# Altium integrated library Xilinx Virtex-6 FPGA.IntLib: 462 symbols (part 4 of 4)
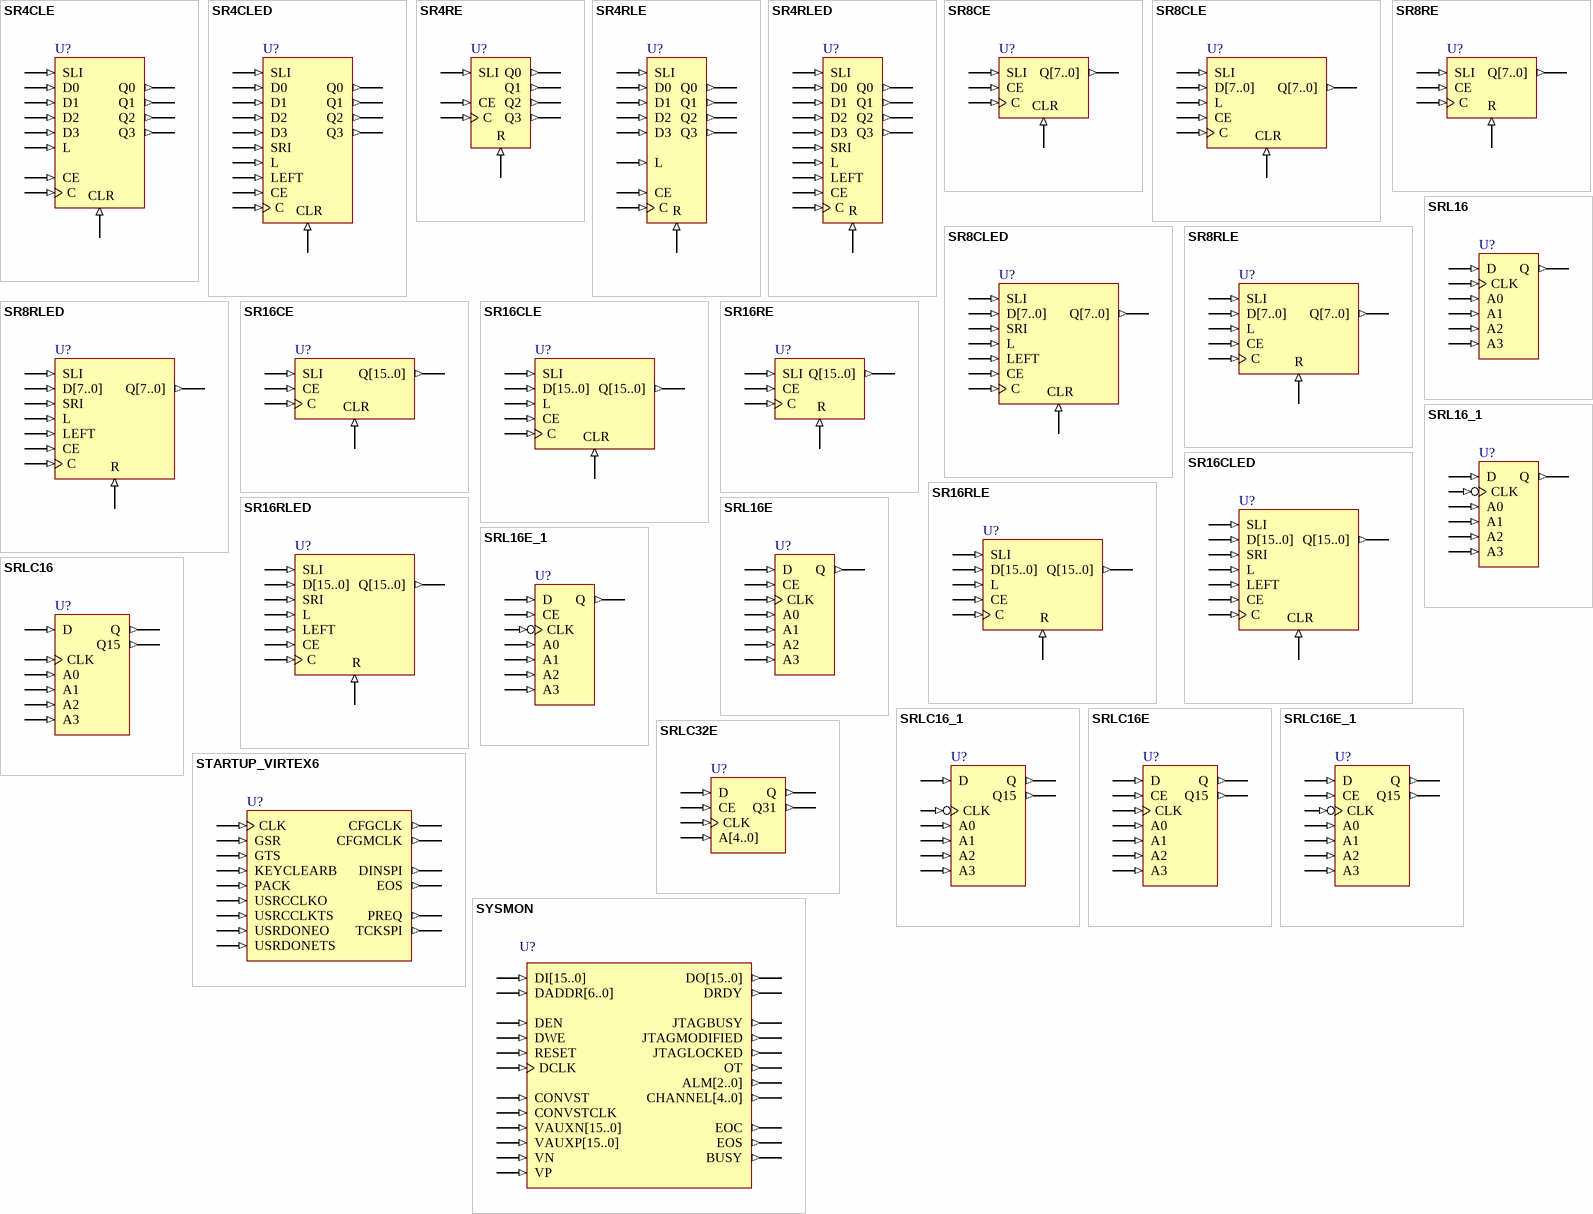
[diagram p16: symbols SR4CLE to SYSMON]

## SYSMON
designator U?
FPGAVendor: Xilinx; FirstPublished: 9-Jan-2010; Publisher: Altium Limited; HelpURL: http://www.xilinx.com/support/documentation/sw_manuals/xilinx11/virtex6_scm.pdf
pins: ALM[2..0] (out), BUSY (out), CHANNEL[4..0] (out), CONVST (in), CONVSTCLK (in), DADDR[6..0] (in), DCLK (in), DEN (in), DI[15..0] (in), DO[15..0] (out), DRDY (out), DWE (in), EOC (out), EOS (out), JTAGBUSY (out), JTAGLOCKED (out), JTAGMODIFIED (out), OT (out), RESET (in), VAUXN[15..0] (in), VAUXP[15..0] (in), VN (in), VP (in)

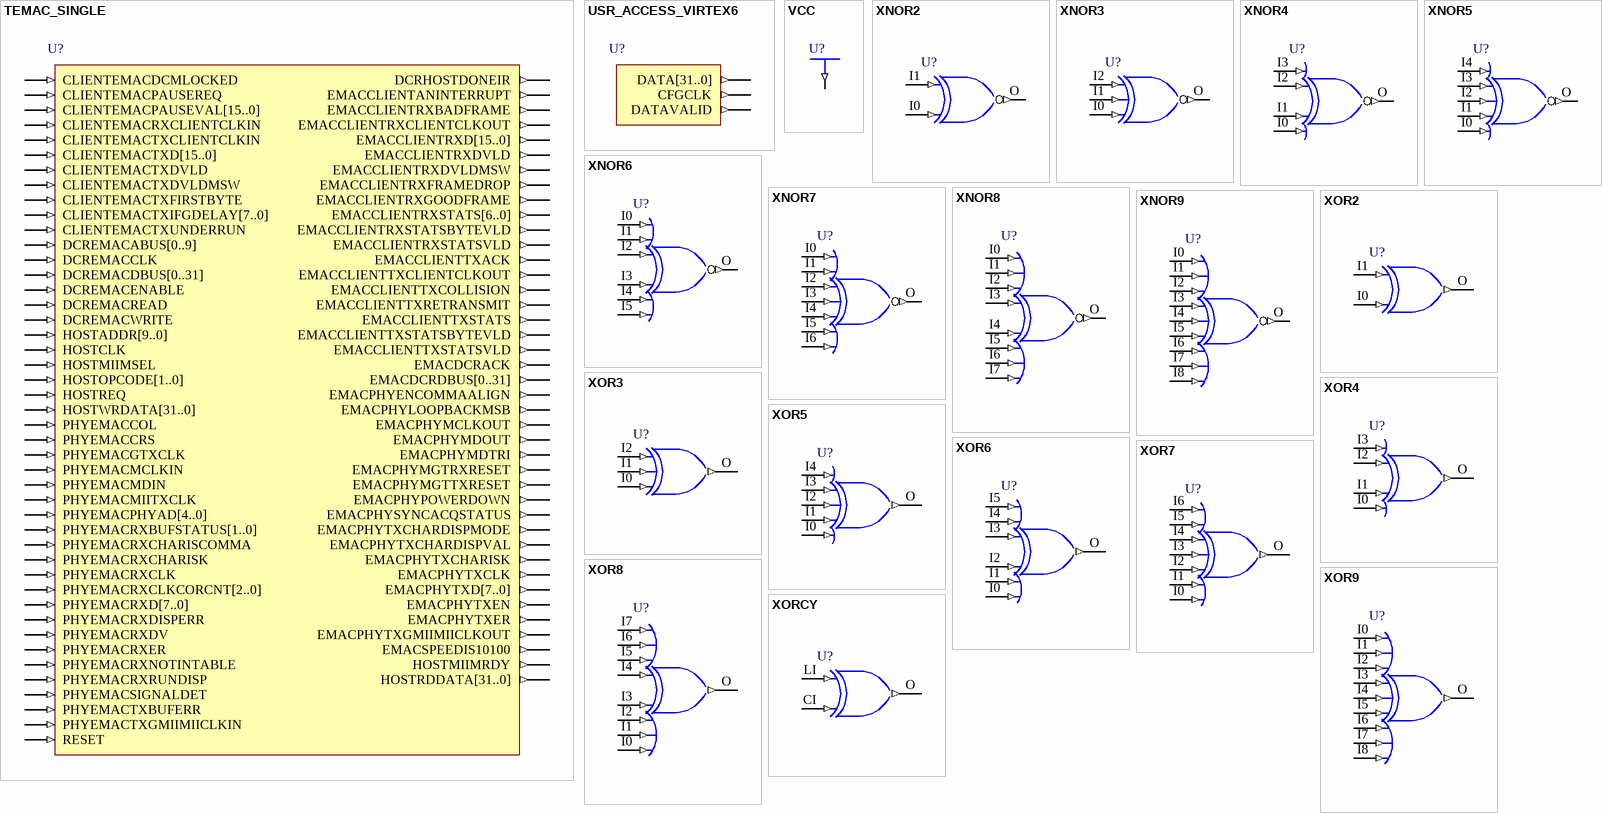
[diagram p13: symbols TEMAC_SINGLE to XORCY]

## TEMAC_SINGLE
designator U?
FPGAVendor: Xilinx; FirstPublished: 9-Jan-2010; Publisher: Altium Limited; HelpURL: http://www.xilinx.com/support/documentation/sw_manuals/xilinx11/virtex6_scm.pdf
pins: CLIENTEMACDCMLOCKED (in), CLIENTEMACPAUSEREQ (in), CLIENTEMACPAUSEVAL[15..0] (in), CLIENTEMACRXCLIENTCLKIN (in), CLIENTEMACTXCLIENTCLKIN (in), CLIENTEMACTXD[15..0] (in), CLIENTEMACTXDVLD (in), CLIENTEMACTXDVLDMSW (in), CLIENTEMACTXFIRSTBYTE (in), CLIENTEMACTXIFGDELAY[7..0] (in), CLIENTEMACTXUNDERRUN (in), DCREMACABUS[0..9] (in), DCREMACCLK (in), DCREMACDBUS[0..31] (in), DCREMACENABLE (in), DCREMACREAD (in), DCREMACWRITE (in), DCRHOSTDONEIR (out), EMACCLIENTANINTERRUPT (out), EMACCLIENTRXBADFRAME (out), EMACCLIENTRXCLIENTCLKOUT (out), EMACCLIENTRXD[15..0] (out), EMACCLIENTRXDVLD (out), EMACCLIENTRXDVLDMSW (out), EMACCLIENTRXFRAMEDROP (out), EMACCLIENTRXGOODFRAME (out), EMACCLIENTRXSTATS[6..0] (out), EMACCLIENTRXSTATSBYTEVLD (out), EMACCLIENTRXSTATSVLD (out), EMACCLIENTTXACK (out), EMACCLIENTTXCLIENTCLKOUT (out), EMACCLIENTTXCOLLISION (out), EMACCLIENTTXRETRANSMIT (out), EMACCLIENTTXSTATS (out), EMACCLIENTTXSTATSBYTEVLD (out), EMACCLIENTTXSTATSVLD (out), EMACDCRACK (out), EMACDCRDBUS[0..31] (out), EMACPHYENCOMMAALIGN (out), EMACPHYLOOPBACKMSB (out), EMACPHYMCLKOUT (out), EMACPHYMDOUT (out), EMACPHYMDTRI (out), EMACPHYMGTRXRESET (out), EMACPHYMGTTXRESET (out), EMACPHYPOWERDOWN (out), EMACPHYSYNCACQSTATUS (out), EMACPHYTXCHARDISPMODE (out), EMACPHYTXCHARDISPVAL (out), EMACPHYTXCHARISK (out), EMACPHYTXCLK (out), EMACPHYTXD[7..0] (out), EMACPHYTXEN (out), EMACPHYTXER (out), EMACPHYTXGMIIMIICLKOUT (out), EMACSPEEDIS10100 (out), HOSTADDR[9..0] (in), HOSTCLK (in), HOSTMIIMRDY (out), HOSTMIIMSEL (in), HOSTOPCODE[1..0] (in), HOSTRDDATA[31..0] (out), HOSTREQ (in), HOSTWRDATA[31..0] (in), PHYEMACCOL (in), PHYEMACCRS (in), PHYEMACGTXCLK (in), PHYEMACMCLKIN (in), PHYEMACMDIN (in), PHYEMACMIITXCLK (in), PHYEMACPHYAD[4..0] (in), PHYEMACRXBUFSTATUS[1..0] (in), PHYEMACRXCHARISCOMMA (in), PHYEMACRXCHARISK (in), PHYEMACRXCLK (in), PHYEMACRXCLKCORCNT[2..0] (in), PHYEMACRXD[7..0] (in), PHYEMACRXDISPERR (in), PHYEMACRXDV (in), PHYEMACRXER (in), PHYEMACRXNOTINTABLE (in), PHYEMACRXRUNDISP (in), PHYEMACSIGNALDET (in), PHYEMACTXBUFERR (in), PHYEMACTXGMIIMIICLKIN (in), RESET (in)

## USR_ACCESS_VIRTEX6
designator U?
FPGAVendor: Xilinx; FirstPublished: 9-Jan-2010; Publisher: Altium Limited; HelpURL: http://www.xilinx.com/support/documentation/sw_manuals/xilinx11/virtex6_scm.pdf
pins: CFGCLK (out), DATA[31..0] (out), DATAVALID (out)

## VCC
designator U?
VCC-Connection Signal Tag; FPGAVendor: Xilinx; FirstPublished: 17-Dec-2009; Publisher: Altium Limited; HelpURL: http://www.xilinx.com/support/documentation/sw_manuals/xilinx11/virtex6_scm.pdf
pins: P (out)

## XNOR2
designator U?
2-Input XNOR Gate; FPGAVendor: Xilinx; FirstPublished: 17-Dec-2009; Publisher: Altium Limited; HelpURL: http://www.xilinx.com/support/documentation/sw_manuals/xilinx11/virtex6_scm.pdf
pins: I0 (in), I1 (in), O (out)

## XNOR3
designator U?
3-Input XNOR Gate; FPGAVendor: Xilinx; FirstPublished: 17-Dec-2009; Publisher: Altium Limited; HelpURL: http://www.xilinx.com/support/documentation/sw_manuals/xilinx11/virtex6_scm.pdf
pins: I0 (in), I1 (in), I2 (in), O (out)

## XNOR4
designator U?
4-Input XNOR Gate; FPGAVendor: Xilinx; FirstPublished: 17-Dec-2009; Publisher: Altium Limited; HelpURL: http://www.xilinx.com/support/documentation/sw_manuals/xilinx11/virtex6_scm.pdf
pins: I0 (in), I1 (in), I2 (in), I3 (in), O (out)

## XNOR5
designator U?
5-Input XNOR Gate; FPGAVendor: Xilinx; FirstPublished: 17-Dec-2009; Publisher: Altium Limited; HelpURL: http://www.xilinx.com/support/documentation/sw_manuals/xilinx11/virtex6_scm.pdf
pins: I0 (in), I1 (in), I2 (in), I3 (in), I4 (in), O (out)

## XNOR6
designator U?
6-Input XNOR Gate; FPGAVendor: Xilinx; FirstPublished: 17-Dec-2009; Publisher: Altium Limited; HelpURL: http://www.xilinx.com/support/documentation/sw_manuals/xilinx11/virtex6_scm.pdf
pins: I0 (in), I1 (in), I2 (in), I3 (in), I4 (in), I5 (in), O (out)

## XNOR7
designator U?
7-Input XNOR Gate; FPGAVendor: Xilinx; FirstPublished: 17-Dec-2009; Publisher: Altium Limited; HelpURL: http://www.xilinx.com/support/documentation/sw_manuals/xilinx11/virtex6_scm.pdf
pins: I0 (in), I1 (in), I2 (in), I3 (in), I4 (in), I5 (in), I6 (in), O (out)

## XNOR8
designator U?
8-Input XNOR Gate; FPGAVendor: Xilinx; FirstPublished: 17-Dec-2009; Publisher: Altium Limited; HelpURL: http://www.xilinx.com/support/documentation/sw_manuals/xilinx11/virtex6_scm.pdf
pins: I0 (in), I1 (in), I2 (in), I3 (in), I4 (in), I5 (in), I6 (in), I7 (in), O (out)

## XNOR9
designator U?
9-Input XNOR Gate; FPGAVendor: Xilinx; FirstPublished: 17-Dec-2009; Publisher: Altium Limited; HelpURL: http://www.xilinx.com/support/documentation/sw_manuals/xilinx11/virtex6_scm.pdf
pins: I0 (in), I1 (in), I2 (in), I3 (in), I4 (in), I5 (in), I6 (in), I7 (in), I8 (in), O (out)

## XOR2
designator U?
2-Input XOR Gate; FPGAVendor: Xilinx; FirstPublished: 17-Dec-2009; Publisher: Altium Limited; HelpURL: http://www.xilinx.com/support/documentation/sw_manuals/xilinx11/virtex6_scm.pdf
pins: I0 (in), I1 (in), O (out)

## XOR3
designator U?
3-Input XOR Gate; FPGAVendor: Xilinx; FirstPublished: 17-Dec-2009; Publisher: Altium Limited; HelpURL: http://www.xilinx.com/support/documentation/sw_manuals/xilinx11/virtex6_scm.pdf
pins: I0 (in), I1 (in), I2 (in), O (out)

## XOR4
designator U?
4-Input XOR Gate; FPGAVendor: Xilinx; FirstPublished: 17-Dec-2009; Publisher: Altium Limited; HelpURL: http://www.xilinx.com/support/documentation/sw_manuals/xilinx11/virtex6_scm.pdf
pins: I0 (in), I1 (in), I2 (in), I3 (in), O (out)

## XOR5
designator U?
5-Input XOR Gate; FPGAVendor: Xilinx; FirstPublished: 17-Dec-2009; Publisher: Altium Limited; HelpURL: http://www.xilinx.com/support/documentation/sw_manuals/xilinx11/virtex6_scm.pdf
pins: I0 (in), I1 (in), I2 (in), I3 (in), I4 (in), O (out)

## XOR6
designator U?
6-Input XOR Gate; FPGAVendor: Xilinx; FirstPublished: 17-Dec-2009; Publisher: Altium Limited; HelpURL: http://www.xilinx.com/support/documentation/sw_manuals/xilinx11/virtex6_scm.pdf
pins: I0 (in), I1 (in), I2 (in), I3 (in), I4 (in), I5 (in), O (out)

## XOR7
designator U?
7-Input XOR Gate; FPGAVendor: Xilinx; FirstPublished: 17-Dec-2009; Publisher: Altium Limited; HelpURL: http://www.xilinx.com/support/documentation/sw_manuals/xilinx11/virtex6_scm.pdf
pins: I0 (in), I1 (in), I2 (in), I3 (in), I4 (in), I5 (in), I6 (in), O (out)

## XOR8
designator U?
8-Input XOR Gate; FPGAVendor: Xilinx; FirstPublished: 17-Dec-2009; Publisher: Altium Limited; HelpURL: http://www.xilinx.com/support/documentation/sw_manuals/xilinx11/virtex6_scm.pdf
pins: I0 (in), I1 (in), I2 (in), I3 (in), I4 (in), I5 (in), I6 (in), I7 (in), O (out)

## XOR9
designator U?
9-Input XOR Gate; FPGAVendor: Xilinx; FirstPublished: 17-Dec-2009; Publisher: Altium Limited; HelpURL: http://www.xilinx.com/support/documentation/sw_manuals/xilinx11/virtex6_scm.pdf
pins: I0 (in), I1 (in), I2 (in), I3 (in), I4 (in), I5 (in), I6 (in), I7 (in), I8 (in), O (out)

## XORCY
designator U?
2-Input XOR Gate for Carry Logic with General Output; FPGAVendor: Xilinx; FirstPublished: 17-Dec-2009; Publisher: Altium Limited; HelpURL: http://www.xilinx.com/support/documentation/sw_manuals/xilinx11/virtex6_scm.pdf
pins: CI (in), LI (in), O (out)